# EAGLE library part BQ28Z610 (library BQ28Z610)
Gas Gauge and Protection for Li-ion Battery
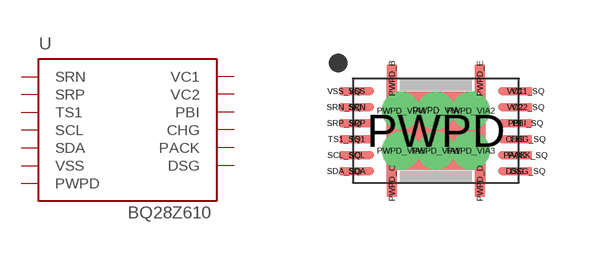
[diagram p0: symbol with the pads of VSON-12; footprint VSON-12]

Designator prefix -

## BQ28Z610  [VSON-12]
CHG  CHG
CHG_SQ  CHG
DSG  DSG
DSG_SQ  DSG
PACK  PACK
PACK_SQ  PACK
PBI  PBI
PBI_SQ  PBI
PWPD  PWPD
PWPD_B  PWPD
PWPD_C  PWPD
PWPD_D  PWPD
PWPD_E  PWPD
PWPD_VIA  PWPD
PWPD_VIA1  PWPD
PWPD_VIA2  PWPD
PWPD_VIA3  PWPD
PWPD_VIA4  PWPD
PWPD_VIA5  PWPD
SCL  SCL
SCL_SQ  SCL
SDA  SDA
SDA_SQ  SDA
SRN  SRN
SRN_SQ  SRN
SRP  SRP
SRP_SQ  SRP
TS1  TS1
TS1_SQ  TS1
VC1  VC1
VC1_SQ  VC1
VC2  VC2
VC2_SQ  VC2
VSS  VSS
VSS_SQ  VSS

## Footprint VSON-12 (pad centres in mm)
smd 0.85 x 0.2: CHG 1.975,-0.21; DSG 1.975,-1.01; PACK 1.975,-0.61; PBI 1.975,0.19; SCL -1.975,-0.61; SDA -1.975,-1.01; SRN -1.975,0.59; SRP -1.975,0.19; TS1 -1.975,-0.21; VC1 1.975,0.99; VC2 1.975,0.59; VSS -1.975,0.99
smd 0.2 x 0.2: CHG_SQ 2.3,-0.21; DSG_SQ 2.3,-1.01; PACK_SQ 2.3,-0.61; PBI_SQ 2.3,0.19; SCL_SQ -2.3,-0.61; SDA_SQ -2.3,-1.01; SRN_SQ -2.3,0.59; SRP_SQ -2.3,0.19; TS1_SQ -2.3,-0.21; VC1_SQ 2.3,0.99; VC2_SQ 2.3,0.59; VSS_SQ -2.3,0.99
smd 2.45 x 1.95: PWPD 0,0
smd 0.25 x 0.675: PWPD_B -1.1,1.312; PWPD_C -1.1,-1.312; PWPD_D 1.1,-1.312; PWPD_E 1.1,1.312
drill 0.432 pad 0.61: PWPD_VIA 0,0.5; PWPD_VIA1 0,-0.5; PWPD_VIA2 0.875,0.5; PWPD_VIA3 0.875,-0.5; PWPD_VIA4 -0.875,0.5; PWPD_VIA5 -0.875,-0.5